# Altium integrated library Linear Technology Power Management Switching Regulator LTC1174-LTC3901.IntLib: 2647 symbols (part 92 of 364)
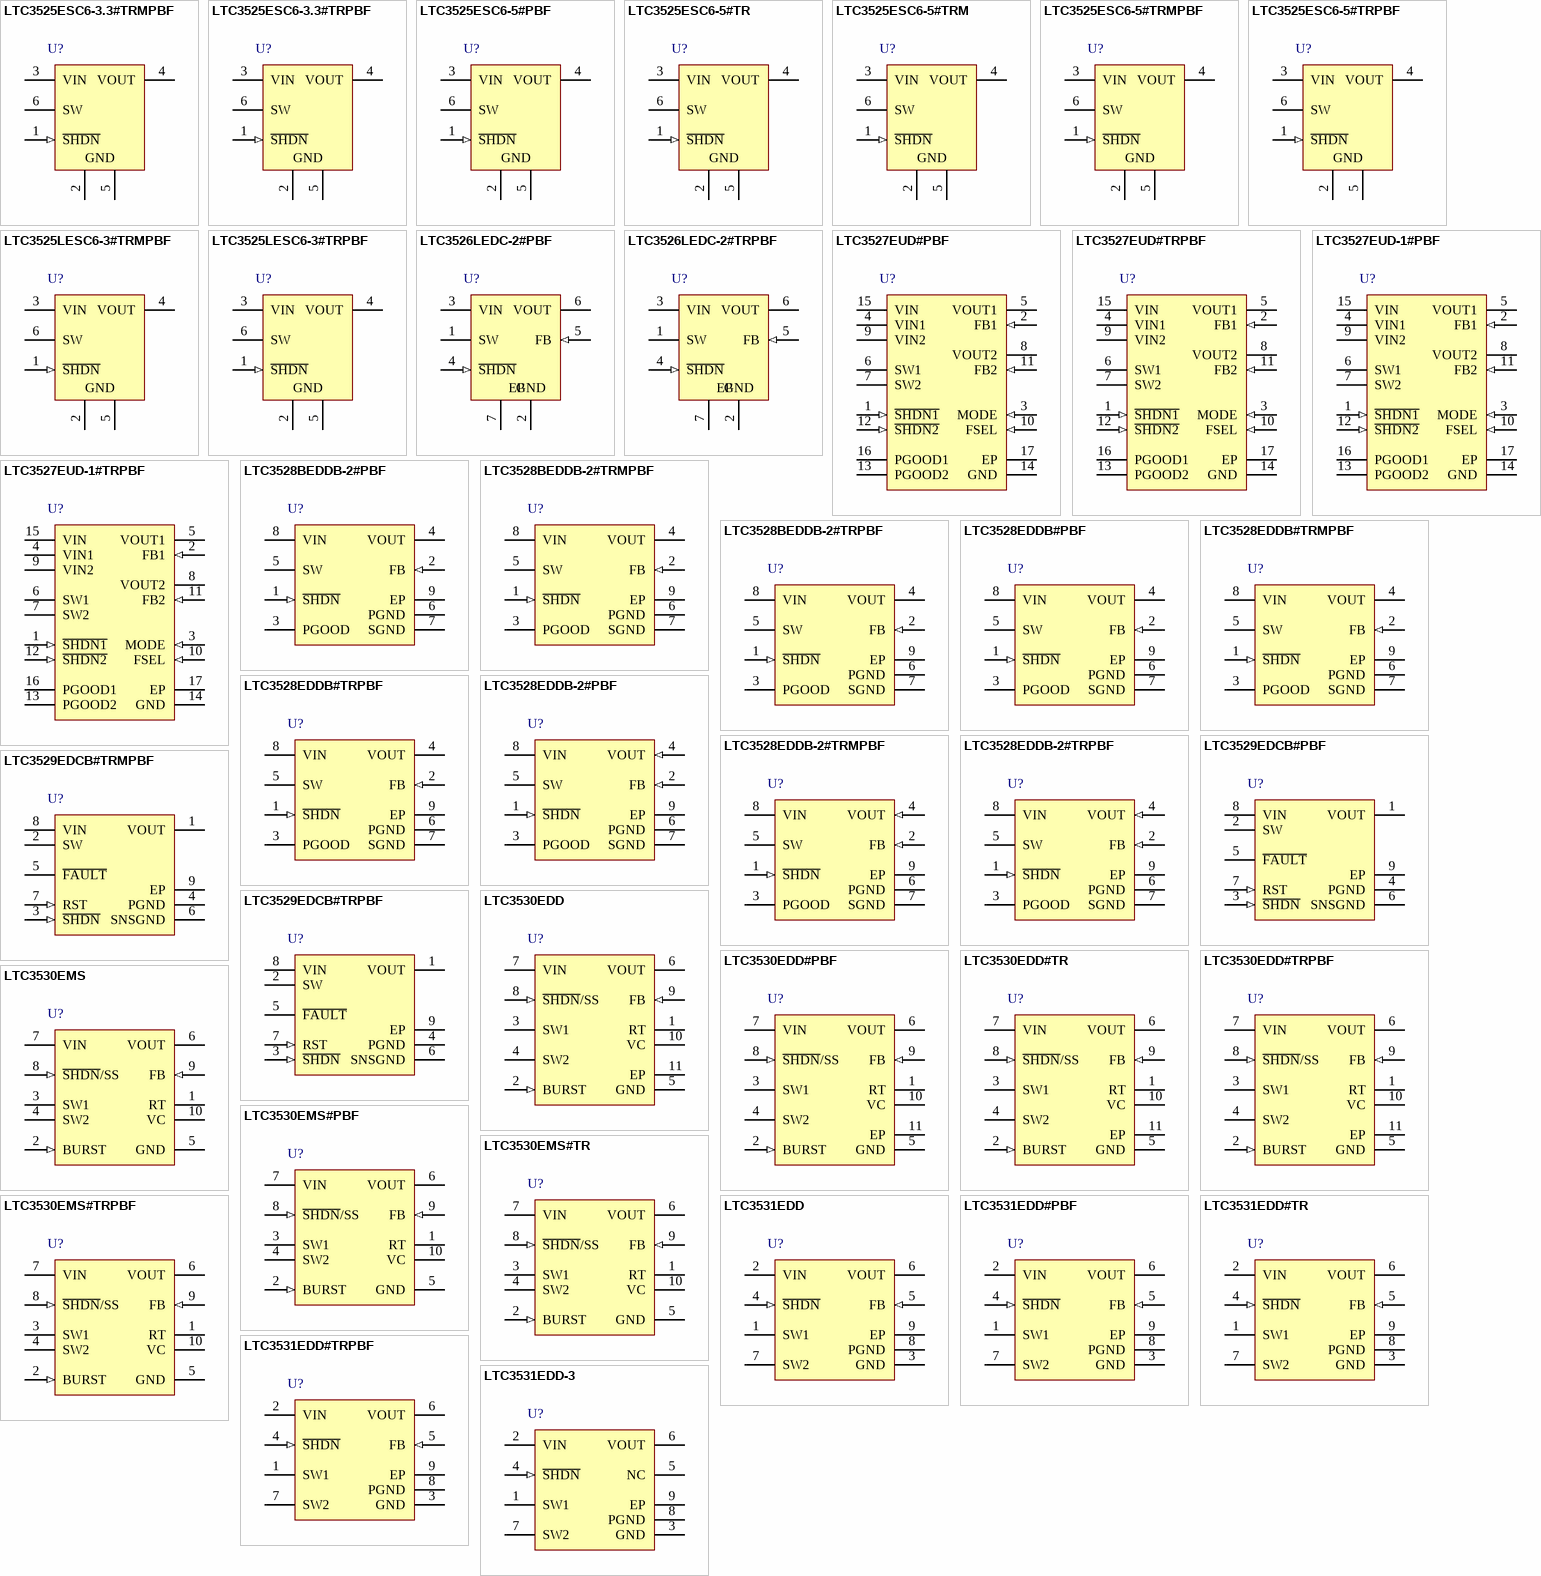
[diagram p162: symbols LTC3525ESC6-3.3#TRMPBF to LTC3531EDD-3]

## LTC3526LEDC-2#PBF
designator U?
550 mA 2 MHz Synchronous Step-Up DC/DC Converter, 6-pin SON (DC6-6), -40 to 85 degC, Pb-Free; Manufacturer: Linear Technology; PartNumber: LTC3526LEDC-2#PBF; Number of Outputs: 1; DatasheetVersion: Rev. C; PackageVersion: Rev. B, 06/2010; PackageReference: DC6-6; PackageDescription: 6-Pin Plastic DFN, Body 2 x 2 mm, Pitch 0.5 mm; RoHS: TRUE; Mounting Technology: Surface Mount; Code_JEDEC: MO-229; ComponentLink1Description: Manufacturer URL; ComponentLink1URL: http://www.linear.com/; ComponentLink2Description: Datasheet; ComponentLink2URL: http://cds.linear.com/docs/en/datasheet/3526lfc.pdf; ComponentLink3Description: Package Specification; ComponentLink3URL: http://cds.linear.com/docs/en/packaging/DFN_6_05-08-1703.pdf
footprint LT-DC6-6_V (SON, 6-Leads, Body 2x2mm, Pitch 0.5mm, Thermal Pad 1.42x0.61mm)
pins: 1 SW "Switch Pin. Connect inductor between SW and VIN. Keep PCB trace lengths as short and wide as possible to reduce EMI. If the inductor current falls to zero or S\H\D\N\ is low, an internal anti-ringing switch is connected from (See Datasheet)", 2 GND (power) "Signal and Power Ground. Provide a short direct PCB path between GND and the (-) side of the input and output capacitors. The Exposed Pad must be soldered to the PCB ground plane. It serves as an additional ground connection (See Datasheet)", 3 VIN (power) "Input Supply Pin. Connect a minimum of 1uF ceramic decoupling capacitor from this pin to ground using short direct PCB traces.", 4 ~{SHDN} (in) "Logic Controlled Shutdown Input. There is an internal 4Mohm pull-down on this pin.", 5 FB (in) "Feedback Input to the gm Error Amplifier. Connect resistor divider tap to this pin. The top of the divider connects to the output capacitor, the bottom of the divider connects to GND. Referring to the Block Diagram, the (See Datasheet)", 6 VOUT (power) "Output voltage sense and drain of the internal synchronous rectifier. PCB trace from VOUT to the output filter capacitor (4.7uF minimum) should be as short and", 7 EP (power) "Signal and Power Ground. Provide a short direct PCB path between GND and the (-) side of the input and output capacitors. The Exposed Pad must be soldered to the PCB ground plane. It serves as an additional ground connection (See Datasheet)"

## LTC3526LEDC-2#TRPBF
designator U?
550 mA 2 MHz Synchronous Step-Up DC/DC Converter, 6-pin SON (DC6-6), -40 to 85 degC, Pb-Free, Tape and Reel; Manufacturer: Linear Technology; PartNumber: LTC3526LEDC-2#TRPBF; Number of Outputs: 1; DatasheetVersion: Rev. C; PackageVersion: Rev. B, 06/2010; PackageReference: DC6-6; PackageDescription: 6-Pin Plastic DFN, Body 2 x 2 mm, Pitch 0.5 mm; Packing: Tape and Reel; RoHS: TRUE; Mounting Technology: Surface Mount; Code_JEDEC: MO-229; ComponentLink1Description: Manufacturer URL; ComponentLink1URL: http://www.linear.com/; ComponentLink2Description: Datasheet; ComponentLink2URL: http://cds.linear.com/docs/en/datasheet/3526lfc.pdf; ComponentLink3Description: Package Specification; ComponentLink3URL: http://cds.linear.com/docs/en/packaging/DFN_6_05-08-1703.pdf
footprint LT-DC6-6_V (SON, 6-Leads, Body 2x2mm, Pitch 0.5mm, Thermal Pad 1.42x0.61mm)
pins: 1 SW "Switch Pin. Connect inductor between SW and VIN. Keep PCB trace lengths as short and wide as possible to reduce EMI. If the inductor current falls to zero or S\H\D\N\ is low, an internal anti-ringing switch is connected from (See Datasheet)", 2 GND (power) "Signal and Power Ground. Provide a short direct PCB path between GND and the (-) side of the input and output capacitors. The Exposed Pad must be soldered to the PCB ground plane. It serves as an additional ground connection (See Datasheet)", 3 VIN (power) "Input Supply Pin. Connect a minimum of 1uF ceramic decoupling capacitor from this pin to ground using short direct PCB traces.", 4 ~{SHDN} (in) "Logic Controlled Shutdown Input. There is an internal 4Mohm pull-down on this pin.", 5 FB (in) "Feedback Input to the gm Error Amplifier. Connect resistor divider tap to this pin. The top of the divider connects to the output capacitor, the bottom of the divider connects to GND. Referring to the Block Diagram, the (See Datasheet)", 6 VOUT (power) "Output voltage sense and drain of the internal synchronous rectifier. PCB trace from VOUT to the output filter capacitor (4.7uF minimum) should be as short and", 7 EP (power) "Signal and Power Ground. Provide a short direct PCB path between GND and the (-) side of the input and output capacitors. The Exposed Pad must be soldered to the PCB ground plane. It serves as an additional ground connection (See Datasheet)"

## LTC3527EUD#PBF
designator U?
Dual 800 mA / 400 mA, 1.2 MHz / 2.2 MHz Synchronous Step-Up DC/DC Converter, 16-pin QFN (UD-16), -40 to 85 degC, Pb-Free; Manufacturer: Linear Technology; PartNumber: LTC3527EUD#PBF; Frequency Adjust Range: 1.2MHz or 2.2MHz; Number of Outputs: 2; DatasheetVersion: Rev. C; PackageVersion: Jun-10; PackageReference: UD-16; PackageDescription: 16-Pin Plastic QFN, Body 3 x 3 mm, Pitch 0.5 mm; Supplier 1: Digi-Key; Supplier Part Number 1: LTC3527EUD#PBF-ND; RoHS: TRUE; Mounting Technology: Surface Mount; Code_JEDEC: MO-220; ComponentLink1Description: Manufacturer URL; ComponentLink1URL: http://www.linear.com/; ComponentLink2Description: Datasheet; ComponentLink2URL: http://cds.linear.com/docs/en/datasheet/35271fc.pdf; ComponentLink3Description: Package Specification; ComponentLink3URL: http://cds.linear.com/docs/en/packaging/QFN_16_05-08-1691.pdf
footprint LT-UD-16_N (QFN, 16-Leads, Body 3x3mm, Pitch 0.5mm, Thermal Pad 1.45x1.45mm, IPC Medium Density)
footprint LT-UD-16_L (QFN, 16-Leads, Body 3x3mm, Pitch 0.5mm, Thermal Pad 1.45x1.45mm, IPC High Density)
footprint LT-UD-16_M (QFN, 16-Leads, Body 3x3mm, Pitch 0.5mm, Thermal Pad 1.45x1.45mm, IPC Low Density)
pins: 1 ~{SHDN1} (in) "Boost Converter 1 Logic-Controlled Shutdown Input. There is an internal 4Mohm pull-down on this pin.  S\H\D\N\1\ = High: Normal free running operation, 1.2MHz/ 2.2MHz typical operating frequency.  S\H\D\N\1\ = Low: Shutdown, (See Datasheet)", 2 FB1 (in) "Boost Converter 1 Feedback Input to the gm Error Amplifier. Connect resistor divider tap to this pin.", 3 MODE (in) "Logic-Controlled Mode Input for Both Boost Converters. MODE = High: Fixed frequency operation. MODE = Low: Automatic Burst Mode operation.MODE pin must be 1V or greater to ensure fixed frequency over all operating conditions.", 4 VIN1 (power) "Battery Input Voltage. See Operation section for more information.", 5 VOUT1 (power) "Boost Converter 1 Output Voltage Sense Input and Drain of the Internal Synchronous Rectifier MOSFET. Driver bias is derived from VOUT1. PCB trace length from VOUT1 to the output filter capacitor(s) should be as short and (See Datasheet)", 6 SW1 "Boost Converter 1 Switch Pin. Connect the inductor between SW1 and VIN1. Keep these PCB trace lengths as short and wide as possible to reduce EMI and voltage overshoot. If the inductor current falls to zero or S\H\D\N\1\ is (See Datasheet)", 7 SW2 "Boost Converter 2 Switch Pin. Connect the inductor between SW2 and VIN2. Keep these PCB trace lengths as short and wide as possible to reduce EMI and voltage overshoot. If the inductor current falls to zero or S\H\D\N\2\ is (See Datasheet)", 8 VOUT2 (power) "Boost Converter 2 Output Voltage Sense Input and Drain of the Internal Synchronous Rectifier MOSFET. Driver bias is derived from VOUT2. PCB trace length from VOUT2 to the output filter capacitor(s) should be as short and (See Datasheet)", 9 VIN2 (power) "Battery Input Voltage. See Operation section for more information.", 10 FSEL (in) "Logic-Controlled Frequency Select Input. FSEL = High: 2.2MHz operation. FSEL = Low: 1.2MHz operation", 11 FB2 (in) "Boost Converter 2 Feedback Input to the gm Error Amplifier. Connect resistor divider tap to this pin.", 12 ~{SHDN2} (in) "Boost Converter 2 Logic-Controlled Shutdown Input. There is an internal 4Mohm pull-down on this pin. S\H\D\N\2\ = High: Normal free-running operation, 1.2MHz/2.2MHz typical operating frequency. S\H\D\N\2\ = Low: Shutdown, (See Datasheet)", 13 PGOOD2 (oc) "Boost Converter 2 Power Good Comparator Output. This open-drain output is low when VFB is 9% below its regulation voltage.", 14 GND (power) "Signal Ground. This pin is used as a ground reference for the internal circuitry of the LTC3527/LTC3527-1.", 15 VIN (power) "Battery Input Voltage. See Operation section for more information.", 16 PGOOD1 (oc) "Boost Converter 1 Power Good Comparator Output. This open-drain output is low when VFB is 9% below its regulation voltage.", 17 EP (power) "Backplane. The exposed pad is PGND and must be soldered to the PCB ground plane. It serves as the power ground connection for VOUT1 and VOUT2, and as a means of conducting heat away from the package."

## LTC3527EUD#TRPBF
designator U?
Dual 800 mA / 400 mA, 1.2 MHz / 2.2 MHz Synchronous Step-Up DC/DC Converter, 16-pin QFN (UD-16), -40 to 85 degC, Pb-Free, Tape and Reel; Manufacturer: Linear Technology; PartNumber: LTC3527EUD#TRPBF; Frequency Adjust Range: 1.2MHz or 2.2MHz; Number of Outputs: 2; DatasheetVersion: Rev. C; PackageVersion: Jun-10; PackageReference: UD-16; PackageDescription: 16-Pin Plastic QFN, Body 3 x 3 mm, Pitch 0.5 mm; Supplier 1: Digi-Key; Supplier Part Number 1: LTC3527EUD#TRPBF-ND; Supplier 2: Newark; Supplier Part Number 2: 75M4524; Packing: Tape and Reel; RoHS: TRUE; Mounting Technology: Surface Mount; Code_JEDEC: MO-220; ComponentLink1Description: Manufacturer URL; ComponentLink1URL: http://www.linear.com/; ComponentLink2Description: Datasheet; ComponentLink2URL: http://cds.linear.com/docs/en/datasheet/35271fc.pdf; ComponentLink3Description: Package Specification; ComponentLink3URL: http://cds.linear.com/docs/en/packaging/QFN_16_05-08-1691.pdf
footprint LT-UD-16_N (QFN, 16-Leads, Body 3x3mm, Pitch 0.5mm, Thermal Pad 1.45x1.45mm, IPC Medium Density)
footprint LT-UD-16_L (QFN, 16-Leads, Body 3x3mm, Pitch 0.5mm, Thermal Pad 1.45x1.45mm, IPC High Density)
footprint LT-UD-16_M (QFN, 16-Leads, Body 3x3mm, Pitch 0.5mm, Thermal Pad 1.45x1.45mm, IPC Low Density)
pins: 1 ~{SHDN1} (in) "Boost Converter 1 Logic-Controlled Shutdown Input. There is an internal 4Mohm pull-down on this pin.  S\H\D\N\1\ = High: Normal free running operation, 1.2MHz/ 2.2MHz typical operating frequency.  S\H\D\N\1\ = Low: Shutdown, (See Datasheet)", 2 FB1 (in) "Boost Converter 1 Feedback Input to the gm Error Amplifier. Connect resistor divider tap to this pin.", 3 MODE (in) "Logic-Controlled Mode Input for Both Boost Converters. MODE = High: Fixed frequency operation. MODE = Low: Automatic Burst Mode operation.MODE pin must be 1V or greater to ensure fixed frequency over all operating conditions.", 4 VIN1 (power) "Battery Input Voltage. See Operation section for more information.", 5 VOUT1 (power) "Boost Converter 1 Output Voltage Sense Input and Drain of the Internal Synchronous Rectifier MOSFET. Driver bias is derived from VOUT1. PCB trace length from VOUT1 to the output filter capacitor(s) should be as short and (See Datasheet)", 6 SW1 "Boost Converter 1 Switch Pin. Connect the inductor between SW1 and VIN1. Keep these PCB trace lengths as short and wide as possible to reduce EMI and voltage overshoot. If the inductor current falls to zero or S\H\D\N\1\ is (See Datasheet)", 7 SW2 "Boost Converter 2 Switch Pin. Connect the inductor between SW2 and VIN2. Keep these PCB trace lengths as short and wide as possible to reduce EMI and voltage overshoot. If the inductor current falls to zero or S\H\D\N\2\ is (See Datasheet)", 8 VOUT2 (power) "Boost Converter 2 Output Voltage Sense Input and Drain of the Internal Synchronous Rectifier MOSFET. Driver bias is derived from VOUT2. PCB trace length from VOUT2 to the output filter capacitor(s) should be as short and (See Datasheet)", 9 VIN2 (power) "Battery Input Voltage. See Operation section for more information.", 10 FSEL (in) "Logic-Controlled Frequency Select Input. FSEL = High: 2.2MHz operation. FSEL = Low: 1.2MHz operation", 11 FB2 (in) "Boost Converter 2 Feedback Input to the gm Error Amplifier. Connect resistor divider tap to this pin.", 12 ~{SHDN2} (in) "Boost Converter 2 Logic-Controlled Shutdown Input. There is an internal 4Mohm pull-down on this pin. S\H\D\N\2\ = High: Normal free-running operation, 1.2MHz/2.2MHz typical operating frequency. S\H\D\N\2\ = Low: Shutdown, (See Datasheet)", 13 PGOOD2 (oc) "Boost Converter 2 Power Good Comparator Output. This open-drain output is low when VFB is 9% below its regulation voltage.", 14 GND (power) "Signal Ground. This pin is used as a ground reference for the internal circuitry of the LTC3527/LTC3527-1.", 15 VIN (power) "Battery Input Voltage. See Operation section for more information.", 16 PGOOD1 (oc) "Boost Converter 1 Power Good Comparator Output. This open-drain output is low when VFB is 9% below its regulation voltage.", 17 EP (power) "Backplane. The exposed pad is PGND and must be soldered to the PCB ground plane. It serves as the power ground connection for VOUT1 and VOUT2, and as a means of conducting heat away from the package."

## LTC3527EUD-1#PBF
designator U?
Dual 800 mA / 400 mA, 1.2 MHz / 2.2 MHz Synchronous Step-Up DC/DC Converter Discharge, 1.6 to 5.25 V Vout, 16-pin QFN (UD-16), -40 to 85 degC, Pb-Free; Manufacturer: Linear Technology; PartNumber: LTC3527EUD-1#PBF; Frequency Adjust Range: 1.2MHz or 2.2MHz; Number of Outputs: 2; DatasheetVersion: Rev. C; PackageVersion: Jun-10; PackageReference: UD-16; PackageDescription: 16-Pin Plastic QFN, Body 3 x 3 mm, Pitch 0.5 mm; Supplier 1: Digi-Key; Supplier Part Number 1: LTC3527EUD-1#PBF-ND; RoHS: TRUE; Mounting Technology: Surface Mount; Code_JEDEC: MO-220; ComponentLink1Description: Manufacturer URL; ComponentLink1URL: http://www.linear.com/; ComponentLink2Description: Datasheet; ComponentLink2URL: http://cds.linear.com/docs/en/datasheet/35271fc.pdf; ComponentLink3Description: Package Specification; ComponentLink3URL: http://cds.linear.com/docs/en/packaging/QFN_16_05-08-1691.pdf
footprint LT-UD-16_N (QFN, 16-Leads, Body 3x3mm, Pitch 0.5mm, Thermal Pad 1.45x1.45mm, IPC Medium Density)
footprint LT-UD-16_L (QFN, 16-Leads, Body 3x3mm, Pitch 0.5mm, Thermal Pad 1.45x1.45mm, IPC High Density)
footprint LT-UD-16_M (QFN, 16-Leads, Body 3x3mm, Pitch 0.5mm, Thermal Pad 1.45x1.45mm, IPC Low Density)
pins: 1 ~{SHDN1} (in) "Boost Converter 1 Logic-Controlled Shutdown Input. There is an internal 4Mohm pull-down on this pin.  S\H\D\N\1\ = High: Normal free running operation, 1.2MHz/ 2.2MHz typical operating frequency.  S\H\D\N\1\ = Low: Shutdown, (See Datasheet)", 2 FB1 (in) "Boost Converter 1 Feedback Input to the gm Error Amplifier. Connect resistor divider tap to this pin.", 3 MODE (in) "Logic-Controlled Mode Input for Both Boost Converters. MODE = High: Fixed frequency operation. MODE = Low: Automatic Burst Mode operation.MODE pin must be 1V or greater to ensure fixed frequency over all operating conditions.", 4 VIN1 (power) "Battery Input Voltage. See Operation section for more information.", 5 VOUT1 (power) "Boost Converter 1 Output Voltage Sense Input and Drain of the Internal Synchronous Rectifier MOSFET. Driver bias is derived from VOUT1. PCB trace length from VOUT1 to the output filter capacitor(s) should be as short and (See Datasheet)", 6 SW1 "Boost Converter 1 Switch Pin. Connect the inductor between SW1 and VIN1. Keep these PCB trace lengths as short and wide as possible to reduce EMI and voltage overshoot. If the inductor current falls to zero or S\H\D\N\1\ is (See Datasheet)", 7 SW2 "Boost Converter 2 Switch Pin. Connect the inductor between SW2 and VIN2. Keep these PCB trace lengths as short and wide as possible to reduce EMI and voltage overshoot. If the inductor current falls to zero or S\H\D\N\2\ is (See Datasheet)", 8 VOUT2 (power) "Boost Converter 2 Output Voltage Sense Input and Drain of the Internal Synchronous Rectifier MOSFET. Driver bias is derived from VOUT2. PCB trace length from VOUT2 to the output filter capacitor(s) should be as short and (See Datasheet)", 9 VIN2 (power) "Battery Input Voltage. See Operation section for more information.", 10 FSEL (in) "Logic-Controlled Frequency Select Input. FSEL = High: 2.2MHz operation. FSEL = Low: 1.2MHz operation", 11 FB2 (in) "Boost Converter 2 Feedback Input to the gm Error Amplifier. Connect resistor divider tap to this pin.", 12 ~{SHDN2} (in) "Boost Converter 2 Logic-Controlled Shutdown Input. There is an internal 4Mohm pull-down on this pin. S\H\D\N\2\ = High: Normal free-running operation, 1.2MHz/2.2MHz typical operating frequency. S\H\D\N\2\ = Low: Shutdown, (See Datasheet)", 13 PGOOD2 (oc) "Boost Converter 2 Power Good Comparator Output. This open-drain output is low when VFB is 9% below its regulation voltage.", 14 GND (power) "Signal Ground. This pin is used as a ground reference for the internal circuitry of the LTC3527/LTC3527-1.", 15 VIN (power) "Battery Input Voltage. See Operation section for more information.", 16 PGOOD1 (oc) "Boost Converter 1 Power Good Comparator Output. This open-drain output is low when VFB is 9% below its regulation voltage.", 17 EP (power) "Backplane. The exposed pad is PGND and must be soldered to the PCB ground plane. It serves as the power ground connection for VOUT1 and VOUT2, and as a means of conducting heat away from the package."

## LTC3527EUD-1#TRPBF
designator U?
Dual 800 mA / 400 mA, 1.2 MHz / 2.2 MHz Synchronous Step-Up DC/DC Converter Discharge, 1.6 to 5.25 V Vout, 16-pin QFN (UD-16), -40 to 85 degC, Pb-Free, Tape and Reel; Manufacturer: Linear Technology; PartNumber: LTC3527EUD-1#TRPBF; Frequency Adjust Range: 1.2MHz or 2.2MHz; Number of Outputs: 2; DatasheetVersion: Rev. C; PackageVersion: Jun-10; PackageReference: UD-16; PackageDescription: 16-Pin Plastic QFN, Body 3 x 3 mm, Pitch 0.5 mm; Supplier 1: Digi-Key; Supplier Part Number 1: LTC3527EUD-1#TRPBF-ND; Packing: Tape and Reel; RoHS: TRUE; Mounting Technology: Surface Mount; Code_JEDEC: MO-220; ComponentLink1Description: Manufacturer URL; ComponentLink1URL: http://www.linear.com/; ComponentLink2Description: Datasheet; ComponentLink2URL: http://cds.linear.com/docs/en/datasheet/35271fc.pdf; ComponentLink3Description: Package Specification; ComponentLink3URL: http://cds.linear.com/docs/en/packaging/QFN_16_05-08-1691.pdf
footprint LT-UD-16_N (QFN, 16-Leads, Body 3x3mm, Pitch 0.5mm, Thermal Pad 1.45x1.45mm, IPC Medium Density)
footprint LT-UD-16_L (QFN, 16-Leads, Body 3x3mm, Pitch 0.5mm, Thermal Pad 1.45x1.45mm, IPC High Density)
footprint LT-UD-16_M (QFN, 16-Leads, Body 3x3mm, Pitch 0.5mm, Thermal Pad 1.45x1.45mm, IPC Low Density)
pins: 1 ~{SHDN1} (in) "Boost Converter 1 Logic-Controlled Shutdown Input. There is an internal 4Mohm pull-down on this pin.  S\H\D\N\1\ = High: Normal free running operation, 1.2MHz/ 2.2MHz typical operating frequency.  S\H\D\N\1\ = Low: Shutdown, (See Datasheet)", 2 FB1 (in) "Boost Converter 1 Feedback Input to the gm Error Amplifier. Connect resistor divider tap to this pin.", 3 MODE (in) "Logic-Controlled Mode Input for Both Boost Converters. MODE = High: Fixed frequency operation. MODE = Low: Automatic Burst Mode operation.MODE pin must be 1V or greater to ensure fixed frequency over all operating conditions.", 4 VIN1 (power) "Battery Input Voltage. See Operation section for more information.", 5 VOUT1 (power) "Boost Converter 1 Output Voltage Sense Input and Drain of the Internal Synchronous Rectifier MOSFET. Driver bias is derived from VOUT1. PCB trace length from VOUT1 to the output filter capacitor(s) should be as short and (See Datasheet)", 6 SW1 "Boost Converter 1 Switch Pin. Connect the inductor between SW1 and VIN1. Keep these PCB trace lengths as short and wide as possible to reduce EMI and voltage overshoot. If the inductor current falls to zero or S\H\D\N\1\ is (See Datasheet)", 7 SW2 "Boost Converter 2 Switch Pin. Connect the inductor between SW2 and VIN2. Keep these PCB trace lengths as short and wide as possible to reduce EMI and voltage overshoot. If the inductor current falls to zero or S\H\D\N\2\ is (See Datasheet)", 8 VOUT2 (power) "Boost Converter 2 Output Voltage Sense Input and Drain of the Internal Synchronous Rectifier MOSFET. Driver bias is derived from VOUT2. PCB trace length from VOUT2 to the output filter capacitor(s) should be as short and (See Datasheet)", 9 VIN2 (power) "Battery Input Voltage. See Operation section for more information.", 10 FSEL (in) "Logic-Controlled Frequency Select Input. FSEL = High: 2.2MHz operation. FSEL = Low: 1.2MHz operation", 11 FB2 (in) "Boost Converter 2 Feedback Input to the gm Error Amplifier. Connect resistor divider tap to this pin.", 12 ~{SHDN2} (in) "Boost Converter 2 Logic-Controlled Shutdown Input. There is an internal 4Mohm pull-down on this pin. S\H\D\N\2\ = High: Normal free-running operation, 1.2MHz/2.2MHz typical operating frequency. S\H\D\N\2\ = Low: Shutdown, (See Datasheet)", 13 PGOOD2 (oc) "Boost Converter 2 Power Good Comparator Output. This open-drain output is low when VFB is 9% below its regulation voltage.", 14 GND (power) "Signal Ground. This pin is used as a ground reference for the internal circuitry of the LTC3527/LTC3527-1.", 15 VIN (power) "Battery Input Voltage. See Operation section for more information.", 16 PGOOD1 (oc) "Boost Converter 1 Power Good Comparator Output. This open-drain output is low when VFB is 9% below its regulation voltage.", 17 EP (power) "Backplane. The exposed pad is PGND and must be soldered to the PCB ground plane. It serves as the power ground connection for VOUT1 and VOUT2, and as a means of conducting heat away from the package."

## LTC3528BEDDB-2#PBF
designator U?
1 A, 2 MHz Synchronous Step-Up DC/DC Converter, 8-pin SON (DDB-8), -40 to 125 degC, Pb-Free; Manufacturer: Linear Technology; PartNumber: LTC3528BEDDB-2#PBF; Number of Outputs: 1; DatasheetVersion: Rev. A; PackageVersion: Rev. B, 06/2010; PackageReference: DDB-8; PackageDescription: 8-Pin Plastic DFN, Body 3 x 2 mm, Pitch 0.5 mm; Supplier 1: Farnell; Supplier Part Number 1: 2308600; Supplier 2: Newark; Supplier Part Number 2: 58T7612; RoHS: TRUE; Mounting Technology: Surface Mount; Code_JEDEC: MO-229; ComponentLink1Description: Manufacturer URL; ComponentLink1URL: http://www.linear.com/; ComponentLink2Description: Datasheet; ComponentLink2URL: http://cds.linear.com/docs/en/datasheet/3528b2fa.pdf; ComponentLink3Description: Package Specification; ComponentLink3URL: http://cds.linear.com/docs/en/packaging/DFN_8_05-08-1702.pdf
footprint LT-DDB-8_V (SON, 8-Leads, Body 3x2mm, Pitch 0.5mm, Thermal Pad 2.2x0.61mm)
pins: 1 ~{SHDN} (in) "Logic Controlled Shutdown Input. There is an internal 4Mohm pull-down resistor on this pin.", 2 FB (in) "Feedback Input. Connect resistor divider tap to this pin.", 3 PGOOD (oc) "Power Good Comparator Output. This open-drain output is low when VFB < 10% from its regulation voltage.", 4 VOUT (power) "Output Voltage Sense and Drain Connection of the Internal Synchronous Rectifier. PCB trace length from VOUT to the output filter capacitor (4.7uF minimum) should be as short and wide as possible.", 5 SW "Switch Pin. Connect inductor between SW and VIN. Keep PCB trace lengths as short and wide as possible to reduce EMI. If the inductor current falls to zero, or S\H\D\N\ is low, an internal anti-ringing switch is connected (See Datasheet)", 6 PGND (power) "Power Ground. Provide a short direct PCB path between PGND and the (-) side of the input and output capacitors.", 7 SGND (power) "Signal Ground. Provide a short direct PCB path between SGND and the (-) side of the input and output capacitors.", 8 VIN (power) "Battery Input Voltage. Connect a minimum of 1uF ceramic decoupling capacitor from this pin to ground.", 9 EP (power) "The exposed pad must be soldered to the PCB ground plane. It serves as another ground connection and as a means of conducting heat away from the die."

## LTC3528BEDDB-2#TRMPBF
designator U?
1 A, 2 MHz Synchronous Step-Up DC/DC Converter, 8-pin SON (DDB-8), -40 to 125 degC, Pb-Free, Mini Tape and Reel; Manufacturer: Linear Technology; PartNumber: LTC3528BEDDB-2#TRMPBF; Number of Outputs: 1; DatasheetVersion: Rev. A; PackageVersion: Rev. B, 06/2010; PackageReference: DDB-8; PackageDescription: 8-Pin Plastic DFN, Body 3 x 2 mm, Pitch 0.5 mm; Supplier 1: Digi-Key; Supplier Part Number 1: LTC3528BEDDB-2#TRMPBFTR-ND; Supplier 2: Digi-Key; Supplier Part Number 2: LTC3528BEDDB-2#TRMPBFCT-ND; Supplier 3: Digi-Key; Supplier Part Number 3: LTC3528BEDDB-2#TRMPBFDKR-ND; Supplier 4: Newark; Supplier Part Number 4: 02P7565; Packing: Mini Tape and Reel; RoHS: TRUE; Mounting Technology: Surface Mount; Code_JEDEC: MO-229; ComponentLink1Description: Manufacturer URL; ComponentLink1URL: http://www.linear.com/; ComponentLink2Description: Datasheet; ComponentLink2URL: http://cds.linear.com/docs/en/datasheet/3528b2fa.pdf; ComponentLink3Description: Package Specification; ComponentLink3URL: http://cds.linear.com/docs/en/packaging/DFN_8_05-08-1702.pdf
footprint LT-DDB-8_V (SON, 8-Leads, Body 3x2mm, Pitch 0.5mm, Thermal Pad 2.2x0.61mm)
pins: 1 ~{SHDN} (in) "Logic Controlled Shutdown Input. There is an internal 4Mohm pull-down resistor on this pin.", 2 FB (in) "Feedback Input. Connect resistor divider tap to this pin.", 3 PGOOD (oc) "Power Good Comparator Output. This open-drain output is low when VFB < 10% from its regulation voltage.", 4 VOUT (power) "Output Voltage Sense and Drain Connection of the Internal Synchronous Rectifier. PCB trace length from VOUT to the output filter capacitor (4.7uF minimum) should be as short and wide as possible.", 5 SW "Switch Pin. Connect inductor between SW and VIN. Keep PCB trace lengths as short and wide as possible to reduce EMI. If the inductor current falls to zero, or S\H\D\N\ is low, an internal anti-ringing switch is connected (See Datasheet)", 6 PGND (power) "Power Ground. Provide a short direct PCB path between PGND and the (-) side of the input and output capacitors.", 7 SGND (power) "Signal Ground. Provide a short direct PCB path between SGND and the (-) side of the input and output capacitors.", 8 VIN (power) "Battery Input Voltage. Connect a minimum of 1uF ceramic decoupling capacitor from this pin to ground.", 9 EP (power) "The exposed pad must be soldered to the PCB ground plane. It serves as another ground connection and as a means of conducting heat away from the die."

## LTC3528BEDDB-2#TRPBF
designator U?
1 A, 2 MHz Synchronous Step-Up DC/DC Converter, 8-pin SON (DDB-8), -40 to 125 degC, Pb-Free, Tape and Reel; Manufacturer: Linear Technology; PartNumber: LTC3528BEDDB-2#TRPBF; Number of Outputs: 1; DatasheetVersion: Rev. A; PackageVersion: Rev. B, 06/2010; PackageReference: DDB-8; PackageDescription: 8-Pin Plastic DFN, Body 3 x 2 mm, Pitch 0.5 mm; Supplier 1: Digi-Key; Supplier Part Number 1: LTC3528BEDDB-2#TRPBF-ND; Packing: Tape and Reel; RoHS: TRUE; Mounting Technology: Surface Mount; Code_JEDEC: MO-229; ComponentLink1Description: Manufacturer URL; ComponentLink1URL: http://www.linear.com/; ComponentLink2Description: Datasheet; ComponentLink2URL: http://cds.linear.com/docs/en/datasheet/3528b2fa.pdf; ComponentLink3Description: Package Specification; ComponentLink3URL: http://cds.linear.com/docs/en/packaging/DFN_8_05-08-1702.pdf
footprint LT-DDB-8_V (SON, 8-Leads, Body 3x2mm, Pitch 0.5mm, Thermal Pad 2.2x0.61mm)
pins: 1 ~{SHDN} (in) "Logic Controlled Shutdown Input. There is an internal 4Mohm pull-down resistor on this pin.", 2 FB (in) "Feedback Input. Connect resistor divider tap to this pin.", 3 PGOOD (oc) "Power Good Comparator Output. This open-drain output is low when VFB < 10% from its regulation voltage.", 4 VOUT (power) "Output Voltage Sense and Drain Connection of the Internal Synchronous Rectifier. PCB trace length from VOUT to the output filter capacitor (4.7uF minimum) should be as short and wide as possible.", 5 SW "Switch Pin. Connect inductor between SW and VIN. Keep PCB trace lengths as short and wide as possible to reduce EMI. If the inductor current falls to zero, or S\H\D\N\ is low, an internal anti-ringing switch is connected (See Datasheet)", 6 PGND (power) "Power Ground. Provide a short direct PCB path between PGND and the (-) side of the input and output capacitors.", 7 SGND (power) "Signal Ground. Provide a short direct PCB path between SGND and the (-) side of the input and output capacitors.", 8 VIN (power) "Battery Input Voltage. Connect a minimum of 1uF ceramic decoupling capacitor from this pin to ground.", 9 EP (power) "The exposed pad must be soldered to the PCB ground plane. It serves as another ground connection and as a means of conducting heat away from the die."

## LTC3528EDDB#PBF
designator U?
1 A, 1 MHz Synchronous Step-Up DC/DC Converter, 8-pin SON (DDB-8), -40 to 125 degC, Pb-Free; Manufacturer: Linear Technology; PartNumber: LTC3528EDDB#PBF; Number of Outputs: 1; DatasheetVersion: Rev. D; PackageVersion: Rev. B, 06/2010; PackageReference: DDB-8; PackageDescription: 8-Pin Plastic DFN, Body 3 x 2 mm, Pitch 0.5 mm; Supplier 1: Newark; Supplier Part Number 1: 78T3199; RoHS: TRUE; Mounting Technology: Surface Mount; Code_JEDEC: MO-229; ComponentLink1Description: Manufacturer URL; ComponentLink1URL: http://www.linear.com/; ComponentLink2Description: Datasheet; ComponentLink2URL: http://cds.linear.com/docs/en/datasheet/3528bfd.pdf; ComponentLink3Description: Package Specification; ComponentLink3URL: http://cds.linear.com/docs/en/packaging/DFN_8_05-08-1702.pdf
footprint LT-DDB-8_V (SON, 8-Leads, Body 3x2mm, Pitch 0.5mm, Thermal Pad 2.2x0.61mm)
pins: 1 ~{SHDN} (in) "Logic Controlled Shutdown Input. There is an internal 4Mohm pull-down resistor on this pin.", 2 FB (in) "Feedback Input. Connect resistor divider tap to this pin.", 3 PGOOD (oc) "Power Good Comparator Output. This open-drain output is low when VFB < 10% from its regulation voltage.", 4 VOUT (power) "Output Voltage Sense and Drain Connection of the Internal Synchronous Rectifier. PCB trace length from VOUT to the output filter capacitor (4.7uF minimum) should be as short and wide as possible.", 5 SW "Switch Pin. Connect inductor between SW and VIN. Keep PCB trace lengths as short and wide as possible to reduce EMI. If the inductor current falls to zero, or S\H\D\N\ is low, an internal anti-ringing switch is connected (See Datasheet)", 6 PGND (power) "Power Ground. Provide a short direct PCB path between PGND and the (-) side of the input and output capacitors.", 7 SGND (power) "Signal Ground. Provide a short direct PCB path between SGND and the (-) side of the input and output capacitors.", 8 VIN (power) "Battery Input Voltage. Connect a minimum of 1uF ceramic decoupling capacitor from this pin to ground.", 9 EP (power) "The exposed pad must be soldered to the PCB ground plane. It serves as another ground connection and as a means of conducting heat away from the die."

## LTC3528EDDB#TRMPBF
designator U?
1 A, 1 MHz Synchronous Step-Up DC/DC Converter, 8-pin SON (DDB-8), -40 to 125 degC, Pb-Free, Mini Tape and Reel; Manufacturer: Linear Technology; PartNumber: LTC3528EDDB#TRMPBF; Number of Outputs: 1; DatasheetVersion: Rev. D; PackageVersion: Rev. B, 06/2010; PackageReference: DDB-8; PackageDescription: 8-Pin Plastic DFN, Body 3 x 2 mm, Pitch 0.5 mm; Supplier 1: Digi-Key; Supplier Part Number 1: LTC3528EDDB#TRMPBFTR-ND; Supplier 2: Digi-Key; Supplier Part Number 2: LTC3528EDDB#TRMPBFCT-ND; Supplier 3: Digi-Key; Supplier Part Number 3: LTC3528EDDB#TRMPBFDKR-ND; Packing: Mini Tape and Reel; RoHS: TRUE; Mounting Technology: Surface Mount; Code_JEDEC: MO-229; ComponentLink1Description: Manufacturer URL; ComponentLink1URL: http://www.linear.com/; ComponentLink2Description: Datasheet; ComponentLink2URL: http://cds.linear.com/docs/en/datasheet/3528bfd.pdf; ComponentLink3Description: Package Specification; ComponentLink3URL: http://cds.linear.com/docs/en/packaging/DFN_8_05-08-1702.pdf
footprint LT-DDB-8_V (SON, 8-Leads, Body 3x2mm, Pitch 0.5mm, Thermal Pad 2.2x0.61mm)
pins: 1 ~{SHDN} (in) "Logic Controlled Shutdown Input. There is an internal 4Mohm pull-down resistor on this pin.", 2 FB (in) "Feedback Input. Connect resistor divider tap to this pin.", 3 PGOOD (oc) "Power Good Comparator Output. This open-drain output is low when VFB < 10% from its regulation voltage.", 4 VOUT (power) "Output Voltage Sense and Drain Connection of the Internal Synchronous Rectifier. PCB trace length from VOUT to the output filter capacitor (4.7uF minimum) should be as short and wide as possible.", 5 SW "Switch Pin. Connect inductor between SW and VIN. Keep PCB trace lengths as short and wide as possible to reduce EMI. If the inductor current falls to zero, or S\H\D\N\ is low, an internal anti-ringing switch is connected (See Datasheet)", 6 PGND (power) "Power Ground. Provide a short direct PCB path between PGND and the (-) side of the input and output capacitors.", 7 SGND (power) "Signal Ground. Provide a short direct PCB path between SGND and the (-) side of the input and output capacitors.", 8 VIN (power) "Battery Input Voltage. Connect a minimum of 1uF ceramic decoupling capacitor from this pin to ground.", 9 EP (power) "The exposed pad must be soldered to the PCB ground plane. It serves as another ground connection and as a means of conducting heat away from the die."

## LTC3528EDDB#TRPBF
designator U?
1 A, 1 MHz Synchronous Step-Up DC/DC Converter, 8-pin SON (DDB-8), -40 to 125 degC, Pb-Free, Tape and Reel; Manufacturer: Linear Technology; PartNumber: LTC3528EDDB#TRPBF; Number of Outputs: 1; DatasheetVersion: Rev. D; PackageVersion: Rev. B, 06/2010; PackageReference: DDB-8; PackageDescription: 8-Pin Plastic DFN, Body 3 x 2 mm, Pitch 0.5 mm; Supplier 1: Digi-Key; Supplier Part Number 1: LTC3528EDDB#TRPBF-ND; Supplier 2: Newark; Supplier Part Number 2: 56M7923; Packing: Tape and Reel; RoHS: TRUE; Mounting Technology: Surface Mount; Code_JEDEC: MO-229; ComponentLink1Description: Manufacturer URL; ComponentLink1URL: http://www.linear.com/; ComponentLink2Description: Datasheet; ComponentLink2URL: http://cds.linear.com/docs/en/datasheet/3528bfd.pdf; ComponentLink3Description: Package Specification; ComponentLink3URL: http://cds.linear.com/docs/en/packaging/DFN_8_05-08-1702.pdf
footprint LT-DDB-8_V (SON, 8-Leads, Body 3x2mm, Pitch 0.5mm, Thermal Pad 2.2x0.61mm)
pins: 1 ~{SHDN} (in) "Logic Controlled Shutdown Input. There is an internal 4Mohm pull-down resistor on this pin.", 2 FB (in) "Feedback Input. Connect resistor divider tap to this pin.", 3 PGOOD (oc) "Power Good Comparator Output. This open-drain output is low when VFB < 10% from its regulation voltage.", 4 VOUT (power) "Output Voltage Sense and Drain Connection of the Internal Synchronous Rectifier. PCB trace length from VOUT to the output filter capacitor (4.7uF minimum) should be as short and wide as possible.", 5 SW "Switch Pin. Connect inductor between SW and VIN. Keep PCB trace lengths as short and wide as possible to reduce EMI. If the inductor current falls to zero, or S\H\D\N\ is low, an internal anti-ringing switch is connected (See Datasheet)", 6 PGND (power) "Power Ground. Provide a short direct PCB path between PGND and the (-) side of the input and output capacitors.", 7 SGND (power) "Signal Ground. Provide a short direct PCB path between SGND and the (-) side of the input and output capacitors.", 8 VIN (power) "Battery Input Voltage. Connect a minimum of 1uF ceramic decoupling capacitor from this pin to ground.", 9 EP (power) "The exposed pad must be soldered to the PCB ground plane. It serves as another ground connection and as a means of conducting heat away from the die."

## LTC3528EDDB-2#PBF
designator U?
1 A, 2 MHz Synchronous Step-Up DC/DC Converter, 8-pin SON (DDB-8), -40 to 125 degC, Pb-Free; Manufacturer: Linear Technology; PartNumber: LTC3528EDDB-2#PBF; Number of Outputs: 1; DatasheetVersion: Rev. B; PackageVersion: Rev. B, 06/2010; PackageReference: DDB-8; PackageDescription: 8-Pin Plastic DFN, Body 3 x 2 mm, Pitch 0.5 mm; Supplier 1: Farnell; Supplier Part Number 1: 2102650; Supplier 2: Newark; Supplier Part Number 2: 51R1507; RoHS: TRUE; Mounting Technology: Surface Mount; Code_JEDEC: MO-229; ComponentLink1Description: Manufacturer URL; ComponentLink1URL: http://www.linear.com/; ComponentLink2Description: Datasheet; ComponentLink2URL: http://cds.linear.com/docs/en/datasheet/35282fb.pdf; ComponentLink3Description: Package Specification; ComponentLink3URL: http://cds.linear.com/docs/en/packaging/DFN_8_05-08-1702.pdf
footprint LT-DDB-8_V (SON, 8-Leads, Body 3x2mm, Pitch 0.5mm, Thermal Pad 2.2x0.61mm)
pins: 1 ~{SHDN} (in) "Logic Controlled Shutdown Input. There is an internal 4M pull-down resistor on this pin.", 2 FB (in) "Feedback Input. Connect resistor divider tap to this pin.", 3 PGOOD (oc) "Power Good Comparator Output. This open-drain output is low when VFB < 10% from its regulation voltage.", 4 VOUT (in) "Output Voltage Sense and Drain Connection of the Internal Synchronous Rectifier. PCB trace length from VOUT to the output filter capacitor (4.7uF minimum) should be as short and wide as possible.", 5 SW "Switch Pin. Connect inductor between SW and VIN. Keep PCB trace lengths as short and wide as possible to reduce EMI. If the inductor current falls to zero, or S\H\D\N\ is low, an internal anti-ringing switch is connected (See Datasheet)", 6 PGND (power) "Power Ground. Provide a short direct PCB path between PGND and the (-) side of the input and output capacitors.", 7 SGND (power) "Signal Ground. Provide a short direct PCB path between SGND and the (-) side of the input and output capacitors.", 8 VIN (power) "Battery Input Voltage. Connect a minimum of 1uF ceramic decoupling capacitor from this pin to ground.", 9 EP (power) "The exposed pad must be soldered to the PCB ground plane. It serves as another ground connection and as a means of conducting heat away from the die."

## LTC3528EDDB-2#TRMPBF
designator U?
1 A, 2 MHz Synchronous Step-Up DC/DC Converter, 8-pin SON (DDB-8), -40 to 125 degC, Pb-Free, Mini Tape and Reel; Manufacturer: Linear Technology; PartNumber: LTC3528EDDB-2#TRMPBF; Number of Outputs: 1; DatasheetVersion: Rev. B; PackageVersion: Rev. B, 06/2010; PackageReference: DDB-8; PackageDescription: 8-Pin Plastic DFN, Body 3 x 2 mm, Pitch 0.5 mm; Supplier 1: Digi-Key; Supplier Part Number 1: LTC3528EDDB-2#TRMPBF-ND; Packing: Mini Tape and Reel; RoHS: TRUE; Mounting Technology: Surface Mount; Code_JEDEC: MO-229; ComponentLink1Description: Manufacturer URL; ComponentLink1URL: http://www.linear.com/; ComponentLink2Description: Datasheet; ComponentLink2URL: http://cds.linear.com/docs/en/datasheet/35282fb.pdf; ComponentLink3Description: Package Specification; ComponentLink3URL: http://cds.linear.com/docs/en/packaging/DFN_8_05-08-1702.pdf
footprint LT-DDB-8_V (SON, 8-Leads, Body 3x2mm, Pitch 0.5mm, Thermal Pad 2.2x0.61mm)
pins: 1 ~{SHDN} (in) "Logic Controlled Shutdown Input. There is an internal 4M pull-down resistor on this pin.", 2 FB (in) "Feedback Input. Connect resistor divider tap to this pin.", 3 PGOOD (oc) "Power Good Comparator Output. This open-drain output is low when VFB < 10% from its regulation voltage.", 4 VOUT (in) "Output Voltage Sense and Drain Connection of the Internal Synchronous Rectifier. PCB trace length from VOUT to the output filter capacitor (4.7uF minimum) should be as short and wide as possible.", 5 SW "Switch Pin. Connect inductor between SW and VIN. Keep PCB trace lengths as short and wide as possible to reduce EMI. If the inductor current falls to zero, or S\H\D\N\ is low, an internal anti-ringing switch is connected (See Datasheet)", 6 PGND (power) "Power Ground. Provide a short direct PCB path between PGND and the (-) side of the input and output capacitors.", 7 SGND (power) "Signal Ground. Provide a short direct PCB path between SGND and the (-) side of the input and output capacitors.", 8 VIN (power) "Battery Input Voltage. Connect a minimum of 1uF ceramic decoupling capacitor from this pin to ground.", 9 EP (power) "The exposed pad must be soldered to the PCB ground plane. It serves as another ground connection and as a means of conducting heat away from the die."

## LTC3528EDDB-2#TRPBF
designator U?
1 A, 2 MHz Synchronous Step-Up DC/DC Converter, 8-pin SON (DDB-8), -40 to 125 degC, Pb-Free, Tape and Reel; Manufacturer: Linear Technology; PartNumber: LTC3528EDDB-2#TRPBF; Number of Outputs: 1; DatasheetVersion: Rev. B; PackageVersion: Rev. B, 06/2010; PackageReference: DDB-8; PackageDescription: 8-Pin Plastic DFN, Body 3 x 2 mm, Pitch 0.5 mm; Supplier 1: Digi-Key; Supplier Part Number 1: LTC3528EDDB-2#TRPBF-ND; Packing: Tape and Reel; RoHS: TRUE; Mounting Technology: Surface Mount; Code_JEDEC: MO-229; ComponentLink1Description: Manufacturer URL; ComponentLink1URL: http://www.linear.com/; ComponentLink2Description: Datasheet; ComponentLink2URL: http://cds.linear.com/docs/en/datasheet/35282fb.pdf; ComponentLink3Description: Package Specification; ComponentLink3URL: http://cds.linear.com/docs/en/packaging/DFN_8_05-08-1702.pdf
footprint LT-DDB-8_V (SON, 8-Leads, Body 3x2mm, Pitch 0.5mm, Thermal Pad 2.2x0.61mm)
pins: 1 ~{SHDN} (in) "Logic Controlled Shutdown Input. There is an internal 4M pull-down resistor on this pin.", 2 FB (in) "Feedback Input. Connect resistor divider tap to this pin.", 3 PGOOD (oc) "Power Good Comparator Output. This open-drain output is low when VFB < 10% from its regulation voltage.", 4 VOUT (in) "Output Voltage Sense and Drain Connection of the Internal Synchronous Rectifier. PCB trace length from VOUT to the output filter capacitor (4.7uF minimum) should be as short and wide as possible.", 5 SW "Switch Pin. Connect inductor between SW and VIN. Keep PCB trace lengths as short and wide as possible to reduce EMI. If the inductor current falls to zero, or S\H\D\N\ is low, an internal anti-ringing switch is connected (See Datasheet)", 6 PGND (power) "Power Ground. Provide a short direct PCB path between PGND and the (-) side of the input and output capacitors.", 7 SGND (power) "Signal Ground. Provide a short direct PCB path between SGND and the (-) side of the input and output capacitors.", 8 VIN (power) "Battery Input Voltage. Connect a minimum of 1uF ceramic decoupling capacitor from this pin to ground.", 9 EP (power) "The exposed pad must be soldered to the PCB ground plane. It serves as another ground connection and as a means of conducting heat away from the die."

## LTC3529EDCB#PBF
designator U?
1.5 A, 1.5 MHz Step-Up DC/DC Converter, 8-pin SON (DCB-8), -40 to 85 degC, Pb-Free; Manufacturer: Linear Technology; PartNumber: LTC3529EDCB#PBF; Number of Outputs: 1; DatasheetVersion: Rev. B; PackageVersion: Rev. A, 06/2010; PackageReference: DCB-8; PackageDescription: 8-Pin Plastic DFN, Body 2 x 3 mm, Pitch 0.45 mm; Supplier 1: Newark; Supplier Part Number 1: 51P3122; RoHS: TRUE; Mounting Technology: Surface Mount; ComponentLink1Description: Manufacturer URL; ComponentLink1URL: http://www.linear.com/; ComponentLink2Description: Datasheet; ComponentLink2URL: http://cds.linear.com/docs/en/datasheet/3529fb.pdf; ComponentLink3Description: Package Specification; ComponentLink3URL: http://cds.linear.com/docs/en/packaging/DFN_8_05-08-1718.pdf
footprint LT-DCB-8_V (SON, 8-Leads, Body 3x2mm, Pitch 0.45mm, Thermal Pad 1.65x1.35mm)
pins: 1 VOUT (power) "Converter Output, Voltage Sense Input and Drain of the Internal Synchronous Rectifier MOSFET. Driver bias is derived from VOUT. PCB trace length from VOUT to the output filter capacitor(s) should be as short and wide as (See Datasheet)", 2 SW "Switch Node. This node connects to one side of the inductor. Keep PCB traces as short and wide as possible to reduce EMI and voltage overshoot. If the inductor current falls to zero, or S\H\D\N\ is low, an internal 100ohm (See Datasheet)", 3 ~{SHDN} (in) "Active-Low Shutdown Input. Forcing this pin above 1V enables the converter. Forcing this pin below 0.35V disables the converter. Do not float this pin.", 4 PGND (power) "High Current Ground Connection. The PCB trace connecting this pin to ground should be as short and as wide as possible.", 5 ~{FAULT} (oc) "Open-Drain Fault Indicator Output. Pulls low when an overcurrent condition exists for more than 22ms.", 6 SNSGND (power) "This pin must be connected to ground.", 7 RST (in) "Logic Input to Select Automatic Restart or Latchoff Following a Fault Shutdown. RST = High: Auto-reset mode. In this mode, the LTC3529 will automatically attempt to restart 22ms (typically) after a fault shutdown. RST = Low: (See Datasheet)", 8 VIN (power) "Input Supply Pin.", 9 EP (power) "Small Signal Ground. This is the ground reference for the internal circuitry of the LTC3529 and must be connected directly to ground."

## LTC3529EDCB#TRMPBF
designator U?
1.5 A, 1.5 MHz Step-Up DC/DC Converter, 8-pin SON (DCB-8), -40 to 85 degC, Pb-Free, Mini Tape and Reel; Manufacturer: Linear Technology; PartNumber: LTC3529EDCB#TRMPBF; Number of Outputs: 1; DatasheetVersion: Rev. B; PackageVersion: Rev. A, 06/2010; PackageReference: DCB-8; PackageDescription: 8-Pin Plastic DFN, Body 2 x 3 mm, Pitch 0.45 mm; Supplier 1: Digi-Key; Supplier Part Number 1: LTC3529EDCB#TRMPBFTR-ND; Supplier 2: Digi-Key; Supplier Part Number 2: LTC3529EDCB#TRMPBFCT-ND; Supplier 3: Digi-Key; Supplier Part Number 3: LTC3529EDCB#TRMPBFDKR-ND; Supplier 4: Farnell; Supplier Part Number 4: 1715211; Supplier 5: Newark; Supplier Part Number 5: 56P3080; Packing: Mini Tape and Reel; RoHS: TRUE; Mounting Technology: Surface Mount; ComponentLink1Description: Manufacturer URL; ComponentLink1URL: http://www.linear.com/; ComponentLink2Description: Datasheet; ComponentLink2URL: http://cds.linear.com/docs/en/datasheet/3529fb.pdf; ComponentLink3Description: Package Specification; ComponentLink3URL: http://cds.linear.com/docs/en/packaging/DFN_8_05-08-1718.pdf
footprint LT-DCB-8_V (SON, 8-Leads, Body 3x2mm, Pitch 0.45mm, Thermal Pad 1.65x1.35mm)
pins: 1 VOUT (power) "Converter Output, Voltage Sense Input and Drain of the Internal Synchronous Rectifier MOSFET. Driver bias is derived from VOUT. PCB trace length from VOUT to the output filter capacitor(s) should be as short and wide as (See Datasheet)", 2 SW "Switch Node. This node connects to one side of the inductor. Keep PCB traces as short and wide as possible to reduce EMI and voltage overshoot. If the inductor current falls to zero, or S\H\D\N\ is low, an internal 100ohm (See Datasheet)", 3 ~{SHDN} (in) "Active-Low Shutdown Input. Forcing this pin above 1V enables the converter. Forcing this pin below 0.35V disables the converter. Do not float this pin.", 4 PGND (power) "High Current Ground Connection. The PCB trace connecting this pin to ground should be as short and as wide as possible.", 5 ~{FAULT} (oc) "Open-Drain Fault Indicator Output. Pulls low when an overcurrent condition exists for more than 22ms.", 6 SNSGND (power) "This pin must be connected to ground.", 7 RST (in) "Logic Input to Select Automatic Restart or Latchoff Following a Fault Shutdown. RST = High: Auto-reset mode. In this mode, the LTC3529 will automatically attempt to restart 22ms (typically) after a fault shutdown. RST = Low: (See Datasheet)", 8 VIN (power) "Input Supply Pin.", 9 EP (power) "Small Signal Ground. This is the ground reference for the internal circuitry of the LTC3529 and must be connected directly to ground."

## LTC3529EDCB#TRPBF
designator U?
1.5 A, 1.5 MHz Step-Up DC/DC Converter, 8-pin SON (DCB-8), -40 to 85 degC, Pb-Free, Tape and Reel; Manufacturer: Linear Technology; PartNumber: LTC3529EDCB#TRPBF; Number of Outputs: 1; DatasheetVersion: Rev. B; PackageVersion: Rev. A, 06/2010; PackageReference: DCB-8; PackageDescription: 8-Pin Plastic DFN, Body 2 x 3 mm, Pitch 0.45 mm; Supplier 1: Digi-Key; Supplier Part Number 1: LTC3529EDCB#TRPBF-ND; Supplier 2: Newark; Supplier Part Number 2: 56P3081; Packing: Tape and Reel; RoHS: TRUE; Mounting Technology: Surface Mount; ComponentLink1Description: Manufacturer URL; ComponentLink1URL: http://www.linear.com/; ComponentLink2Description: Datasheet; ComponentLink2URL: http://cds.linear.com/docs/en/datasheet/3529fb.pdf; ComponentLink3Description: Package Specification; ComponentLink3URL: http://cds.linear.com/docs/en/packaging/DFN_8_05-08-1718.pdf
footprint LT-DCB-8_V (SON, 8-Leads, Body 3x2mm, Pitch 0.45mm, Thermal Pad 1.65x1.35mm)
pins: 1 VOUT (power) "Converter Output, Voltage Sense Input and Drain of the Internal Synchronous Rectifier MOSFET. Driver bias is derived from VOUT. PCB trace length from VOUT to the output filter capacitor(s) should be as short and wide as (See Datasheet)", 2 SW "Switch Node. This node connects to one side of the inductor. Keep PCB traces as short and wide as possible to reduce EMI and voltage overshoot. If the inductor current falls to zero, or S\H\D\N\ is low, an internal 100ohm (See Datasheet)", 3 ~{SHDN} (in) "Active-Low Shutdown Input. Forcing this pin above 1V enables the converter. Forcing this pin below 0.35V disables the converter. Do not float this pin.", 4 PGND (power) "High Current Ground Connection. The PCB trace connecting this pin to ground should be as short and as wide as possible.", 5 ~{FAULT} (oc) "Open-Drain Fault Indicator Output. Pulls low when an overcurrent condition exists for more than 22ms.", 6 SNSGND (power) "This pin must be connected to ground.", 7 RST (in) "Logic Input to Select Automatic Restart or Latchoff Following a Fault Shutdown. RST = High: Auto-reset mode. In this mode, the LTC3529 will automatically attempt to restart 22ms (typically) after a fault shutdown. RST = Low: (See Datasheet)", 8 VIN (power) "Input Supply Pin.", 9 EP (power) "Small Signal Ground. This is the ground reference for the internal circuitry of the LTC3529 and must be connected directly to ground."